# Altium footprint library L2N7002SLLT1G.PcbLib: 1 footprints
Each footprint in its own frame and in the unit in brackets; x right, y up, seen from the top. Pads: shape width x height; smd on the part's side, far side on the other; paste and mask are expansions set on the pad; w line width, h text height; cw(c..) or ccw(c..) is an arc to the next point about the centre after c.
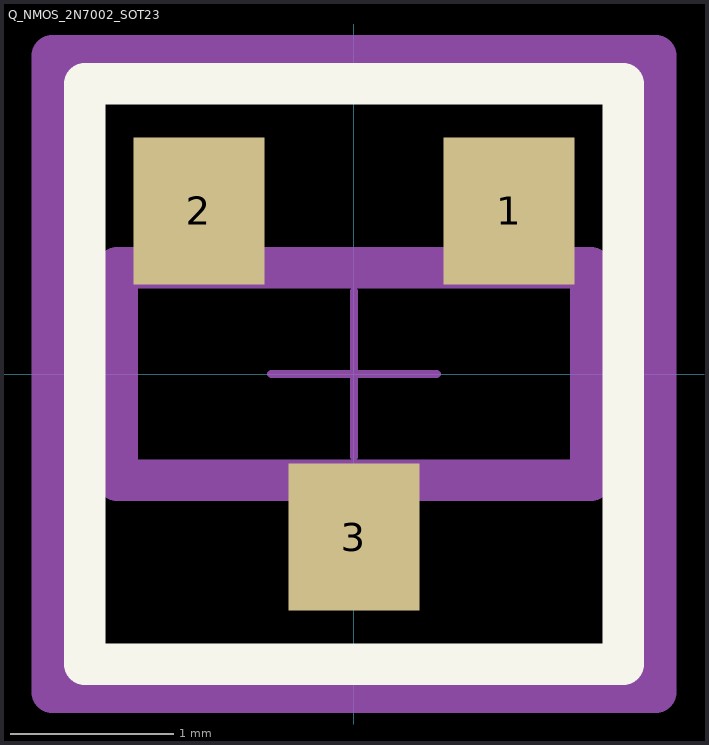
[diagram p0: the footprint, top view; thin cyan lines are the x and y axes]

## Q_NMOS_2N7002_SOT23 [mm] "-55℃~+150℃ 1 N-channel 10pF 1V 2.8Ω@10V 35pF 380mA 420mW 440pC@4.5V 60V N-Channel SOT-23 MOSFETs ROHS"
pads (3):
  rect 0.8x0.9 smd: 1(0.95,1) 2(-0.95,1) 3(0,-1)
Top Overlay:
  lines w0.254: -1.651,-1.778 1.651,-1.778 1.651,1.778 -1.651,1.778 -1.651,-1.778
Top Assembly:
  lines w0.254: -1.45,-0.65 1.45,-0.65 1.45,0.65 -1.45,0.65 -1.45,-0.65
  text ".Designator" at 0,0.286 h1.52
Top Courtyard:
  lines w0.254: -1.85,-1.95 1.85,-1.95 1.85,1.95 -1.85,1.95 -1.85,-1.95
Top Component Center (Mech16):
  lines w0.051: -0.508,0 0.508,0 ; 0,-0.508 0,0.508